# Altium footprint library marcolib.PcbLib: 41 footprints (part 2 of 3)
Each footprint in its own frame and in the unit in brackets; x right, y up, seen from the top. Pads: shape width x height; smd on the part's side, far side on the other; paste and mask are expansions set on the pad; w line width, h text height; cw(c..) or ccw(c..) is an arc to the next point about the centre after c.
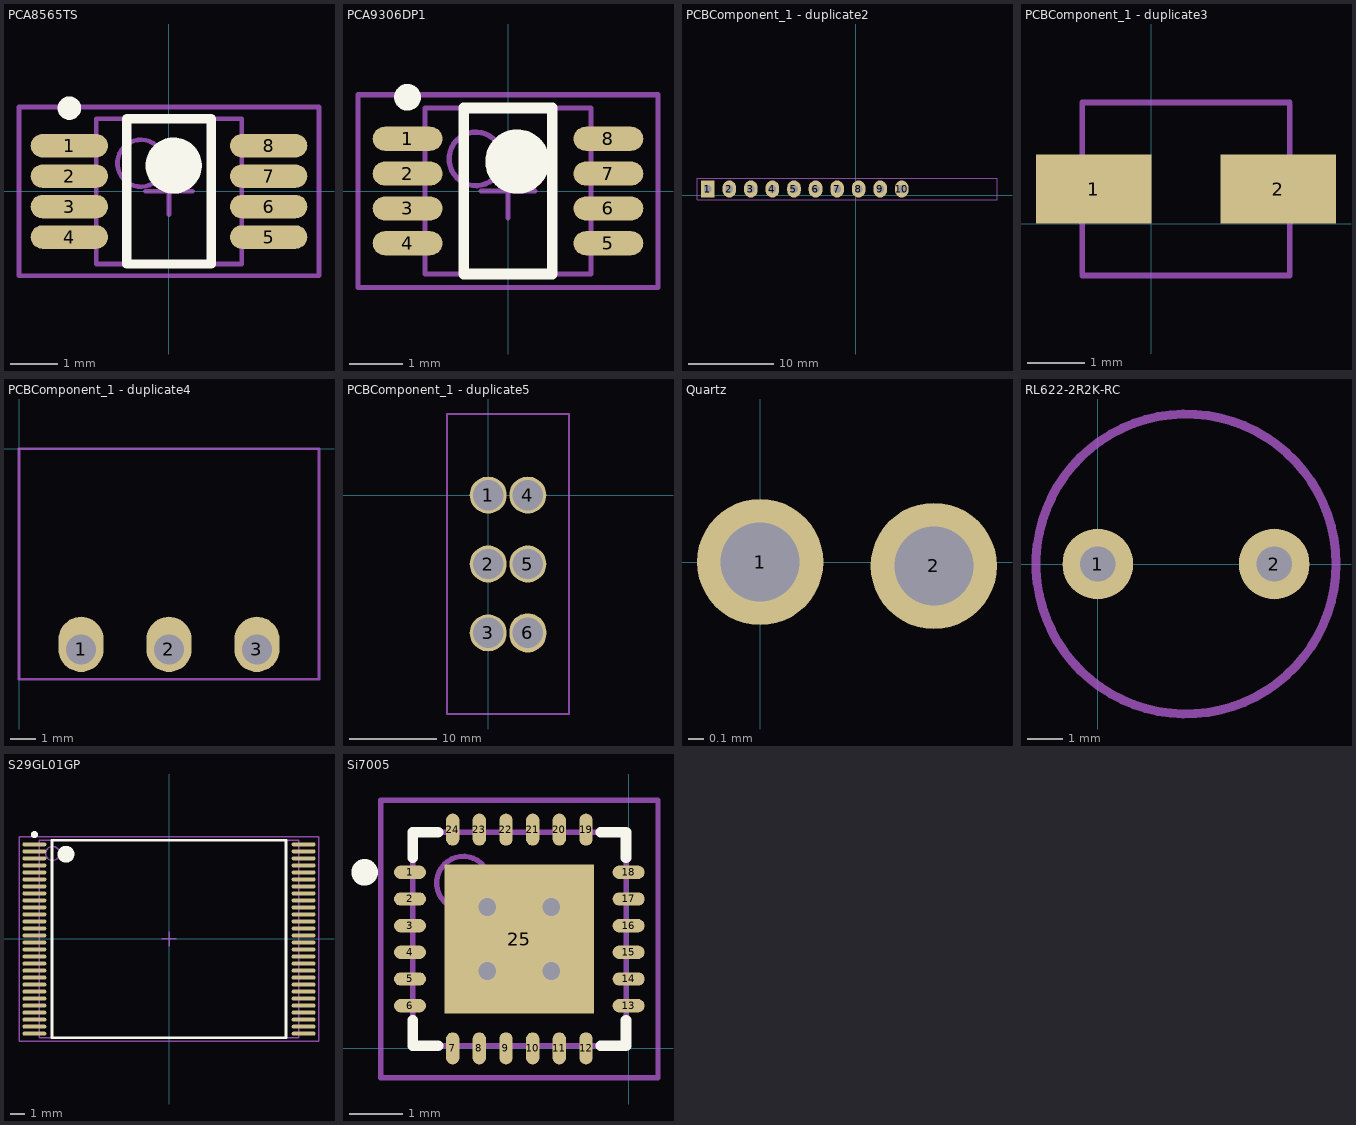
[diagram p1: the footprints below, top view; thin cyan lines are the x and y axes]

## PCA8565TS [mm] "calendar"
height 0.15
pads (8):
  oval 1.65x0.5 smd: 1(-2.125,0.975) 2(-2.125,0.325) 3(-2.125,-0.325) 4(-2.125,-0.975) 5(2.125,-0.975) 6(2.125,-0.325) 7(2.125,0.325) 8(2.125,0.975)
Top Overlay:
  circle w0.6: c0.1,0.55 r0.3
  circle w0.25: c-2.125,1.775 r0.125
  lines w0.2: -0.9,-1.55 0.9,-1.55 0.9,1.55 -0.9,1.55 -0.9,-1.55
Mechanical 13:
  circle w0.1: c-0.6,0.6 r0.5
  lines w0.1: -1.55,-1.55 1.55,-1.55 1.55,1.55 -1.55,1.55 -1.55,-1.55
Mechanical 15:
  lines w0.1: -0.5,0 0.5,0 ; 0,-0.5 0,0.5 ; -3.2,-1.8 3.2,-1.8 3.2,1.8 -3.2,1.8 -3.2,-1.8
3D body: height 0.28, standoff 0.15, extent -1.55,-1.55 1.55,1.55

## PCA9306DP1 [mm] "I2C voltage translator"
height 1.1
pads (8):
  oval 1.3x0.45 smd: 1(-1.875,0.975) 2(-1.875,0.325) 3(-1.875,-0.325) 4(-1.875,-0.975) 5(1.875,-0.975) 6(1.875,-0.325) 7(1.875,0.325) 8(1.875,0.975)
Top Overlay:
  circle w0.25: c-1.875,1.75 r0.125
  circle w0.6: c0.175,0.55 r0.3
  lines w0.2: -0.825,-1.55 -0.825,1.55 0.825,1.55 0.825,-1.55 -0.825,-1.55
Mechanical 13:
  circle w0.1: c-0.6,0.6 r0.5
  lines w0.1: -1.55,-1.55 -1.55,1.55 1.55,1.55 1.55,-1.55 -1.55,-1.55
Mechanical 15:
  lines w0.1: -0.5,0 0.5,0 ; 0,-0.5 0,0.5 ; -2.8,-1.8 -2.8,1.8 2.8,1.8 2.8,-1.8 -2.8,-1.8
3D body: height 1.1, standoff 0.08, extent -1.55,-1.55 1.55,1.55

## PCBComponent_1 [mm]

## PCBComponent_1 - duplicate [mm]

## PCBComponent_1 - duplicate1 [mm]

## PCBComponent_1 - duplicate2 [mm]
pads (10):
  rect 1.6x2 hole 0.9: 1(-17.45,0.752)
  oval 1.6x2 hole 0.9: 2(-14.91,0.752) 3(-12.37,0.752) 4(-9.83,0.752) 5(-7.29,0.752) 6(-4.75,0.752) 7(-2.21,0.752) 8(0.33,0.752) 9(2.87,0.752) 10(5.41,0.752)
Mechanical 13:
  lines w0.1: -18.72,-0.518 16.637,-0.518 16.637,2.022 -18.72,2.022 -18.72,-0.518

## PCBComponent_1 - duplicate3 [mm]
pads (2):
  rect 2x1.2 smd: 1(-1,0.6) 2(2.2,0.6)
Mechanical 15:
  lines w0.1: -1.2,-0.9 2.4,-0.9 2.4,2.05 ; -1.2,-0.85 -1.2,2.1 2.4,2.1

## PCBComponent_1 - duplicate4 [mm]
pads (3):
  oval 1.8x2.2 hole 1.2 copper offset 0,0.2: 1(2.475,-8) 2(5.975,-8) 3(9.475,-8)
Mechanical 13:
  lines w0.1: 0,-9.2 11.95,-9.2 11.95,0 0,0 0,-9.2

## PCBComponent_1 - duplicate5 [mm]
pads (6):
  round 4.25 hole 3.5: 1(0,0) 2(0,-7.925) 3(0,-15.85) 4(4.55,0) 5(4.55,-7.925)
  oval 4.25x4.5 hole 3.5: 6(4.55,-15.85)
Mechanical 15:
  lines w0.254: -4.725,-25.175 9.275,-25.175 9.275,9.325 -4.725,9.325 -4.725,-25.175

## PCBComponent_1 - duplicate6 [mm]

## PCBComponent_1 - duplicate7 [mm]

## PCBComponent_1 - duplicate8 [mm]

## Quartz [mm]
pads (2):
  round 0.8 hole 0.5: 1(0,0) 2(1.1,-0.025)

## RL622-2R2K-RC [mm]
pads (2):
  round 2 hole 1: 1(0,0) 2(5,0)
Mechanical 13:
  circle w0.254: c2.5,0 r4.25

## S29GL01GP [mm] "NOR flash memory"
height 1.05
pads (56):
  oval 1.7x0.3 smd: 1(-9.6,6.75) 2(-9.6,6.25) 3(-9.6,5.75) 4(-9.6,5.25) 5(-9.6,4.75) 6(-9.6,4.25) 7(-9.6,3.75) 8(-9.6,3.25) 9(-9.6,2.75) 10(-9.6,2.25) 11(-9.6,1.75) 12(-9.6,1.25) 13(-9.6,0.75) 14(-9.6,0.25) 15(-9.6,-0.25) 16(-9.6,-0.75) 17(-9.6,-1.25) 18(-9.6,-1.75) 19(-9.6,-2.25) 20(-9.6,-2.75) 21(-9.6,-3.25) 22(-9.6,-3.75) 23(-9.6,-4.25) 24(-9.6,-4.75) 25(-9.6,-5.25) 26(-9.6,-5.75) 27(-9.6,-6.25) 28(-9.6,-6.75) 29(9.6,-6.75) 30(9.6,-6.25) 31(9.6,-5.75) 32(9.6,-5.25) 33(9.6,-4.75) 34(9.6,-4.25) 35(9.6,-3.75) 36(9.6,-3.25) 37(9.6,-2.75) 38(9.6,-2.25) 39(9.6,-1.75) 40(9.6,-1.25) 41(9.6,-0.75) 42(9.6,-0.25) 43(9.6,0.25) 44(9.6,0.75) 45(9.6,1.25) 46(9.6,1.75) 47(9.6,2.25) 48(9.6,2.75) 49(9.6,3.25) 50(9.6,3.75) 51(9.6,4.25) 52(9.6,4.75) 53(9.6,5.25) 54(9.6,5.75) 55(9.6,6.25) 56(9.6,6.75)
Top Overlay:
  circle w0.6: c-7.35,6.05 r0.3
  circle w0.25: c-9.6,7.45 r0.125
  lines w0.2: -8.35,-7.05 8.35,-7.05 8.35,7.05 -8.35,7.05 -8.35,-7.05
Mechanical 13:
  circle w0.1: c-8.3,6.1 r0.5
  lines w0.1: -9.25,-7.05 9.25,-7.05 9.25,7.05 -9.25,7.05 -9.25,-7.05
Mechanical 15:
  lines w0.1: -0.5,0 0.5,0 ; 0,-0.5 0,0.5 ; -10.7,-7.3 10.7,-7.3 10.7,7.3 -10.7,7.3 -10.7,-7.3
3D body: height 1.05, standoff 0.1, extent -9.25,-7.05 9.25,7.05

## Si7005 [mm] "RAH sensor"
height 1.4
pads (25):
  oval 0.6x0.25 smd: 1(-4.1,3.3) 2(-4.1,2.8) 3(-4.1,2.3) 4(-4.1,1.8) 5(-4.1,1.3) 6(-4.1,0.8) 13(0,0.8) 14(0,1.3) 15(0,1.8) 16(0,2.3) 17(0,2.8) 18(0,3.3)
  oval 0.25x0.6 smd: 7(-3.3,0) 8(-2.8,0) 9(-2.3,0) 10(-1.8,0) 11(-1.3,0) 12(-0.8,0) 19(-0.8,4.1) 20(-1.3,4.1) 21(-1.8,4.1) 22(-2.3,4.1) 23(-2.8,4.1) 24(-3.3,4.1)
  rect 2.8x2.8 smd: 25(-2.05,2.05)
via -1.45,1.45 diameter 0.66 hole 0.33
via -2.65,1.45 diameter 0.66 hole 0.33
via -1.45,2.65 diameter 0.66 hole 0.33
via -2.65,2.65 diameter 0.66 hole 0.33
Top Overlay:
  circle w0.25: c-4.95,3.3 r0.125
  lines w0.2: -4.05,0.525 -4.05,0.05 -3.575,0.05 ; -4.05,3.575 -4.05,4.05 -3.575,4.05 ; -0.525,0.05 -0.05,0.05 -0.05,0.525 ; -0.525,4.05 -0.05,4.05 -0.05,3.575
Mechanical 13:
  circle w0.1: c-3.1,3.1 r0.5
  lines w0.1: -4.05,0.05 -0.05,0.05 -0.05,4.05 -4.05,4.05 -4.05,0.05
Mechanical 15:
  lines w0.1: -2.55,2.05 -1.55,2.05 ; -2.05,1.55 -2.05,2.55 ; -4.65,-0.55 0.55,-0.55 0.55,4.65 -4.65,4.65 -4.65,-0.55
3D body: height 1.4, standoff 0, extent -4.05,0.05 -0.05,4.05